# EAGLE library part LT1484 (library My Library-adm)
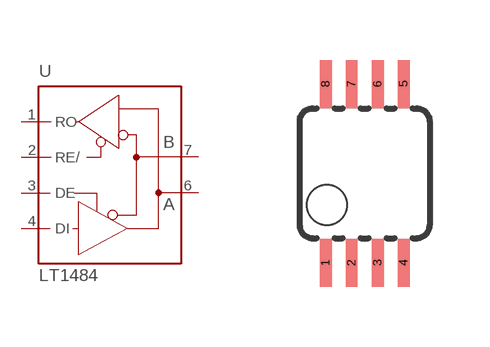
[diagram p13: symbol with the pads of MSOP08; footprint MSOP08]

Designator prefix -

## LT1484  [MSOP08]
1  RO  out
2  RE/  in
3  DE  in
4  DI  in
6  A  pas
7  B  pas

## Footprint MSOP08 (pad centres in mm)
Mini Small Outline Package
smd 0.3 x 1.2: 1 -0.976,-2.24; 2 -0.326,-2.24; 3 0.324,-2.24; 4 0.974,-2.24; 5 0.974,2.239; 6 0.324,2.239; 7 -0.326,2.239; 8 -0.976,2.239